# Altium schematic symbol library PCF85063ATL_1,118.Schlib: 1 symbol
Pins are listed as number, name and electrical type; pins without a type are passive.

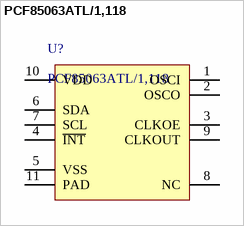
[diagram p0: symbol PCF85063ATL/1,118]

## PCF85063ATL/1,118
designator U?
Real Time Clock (RTC) IC Clock/Calendar - I²C, 2-Wire Serial 10-XFDFN Exposed Pad
pins: 1 OSCI, 2 OSCO, 3 CLKOE, 4 ~{INT}, 5 VSS, 6 SDA, 7 SCL, 8 NC, 9 CLKOUT, 10 VDD, 11 PAD